# EAGLE library part NANO_ARDUINONANOV30_ARDUINO_NANO (library ardunio-physics-board-v4)
Arduino Nano V3.0 Overview: The Arduino Nano is a small, complete, and breadboard-friendly board based on the ATmega328 (Arduino Nano 3.x) or ATmega168 (Arduino Nano 2.x). It has more or less the same functionality of the Arduino Duemilanove, but in a different package. It lacks only a DC power jack, and works with a Mini-B USB cable instead of a standard one. The Nano was designed and is being produced by Gravitech. Specifications: Microcontroller Atmel ATmega168 or ATmega328 Operating Voltage (logic level) 5 V Input Voltage (recommended) 7-12 V Input Voltage (limits) 6-20 V Digital I/O Pins 14 (of which 6 provide PWM output) Analog Input Pins 8 DC Current per I/O Pin 40 mA Flash Memory 16 KB (ATmega168) or 32 KB (ATmega328) of which 2 KB used by bootloader SRAM 1 KB (ATmega168) or 2 KB (ATmega328) EEPROM 512 bytes (ATmega168) or 1 KB (ATmega328) Clock Speed 16 MHz Dimensions 0.73" x 1.70" Length 45 mm Width 18 mm Weigth 5 g Power: The Arduino Nano can be powered via the Mini-B USB connection, 6-20V unregulated external power supply (pin 30), or 5V regulated external power supply (pin 27). The power source is automatically selected to the highest voltage source. Memory: The ATmega168 has 16 KB of flash memory for storing code (of which 2 KB is used for the bootloader); the ATmega328 has 32 KB, (also with 2 KB used for the bootloader). The ATmega168 has 1 KB of SRAM and 512 bytes of EEPROM (which can be read and written with the EEPROM library); the ATmega328 has 2 KB of SRAM and 1 KB of EEPROM. Input and Output: Each of the 14 digital pins on the Nano can be used as an input or output, using pinMode(), digitalWrite(), and digitalRead() functions. They operate at 5 volts. Each pin can provide or receive a maximum of 40 mA and has an internal pull-up resistor (disconnected by default) of 20-50 kOhms. In addition, some pins have specialized functions. Visit Arduino - ArduinoBoardNano <https://www.arduino.cc/en/Main/ArduinoBoardNano>
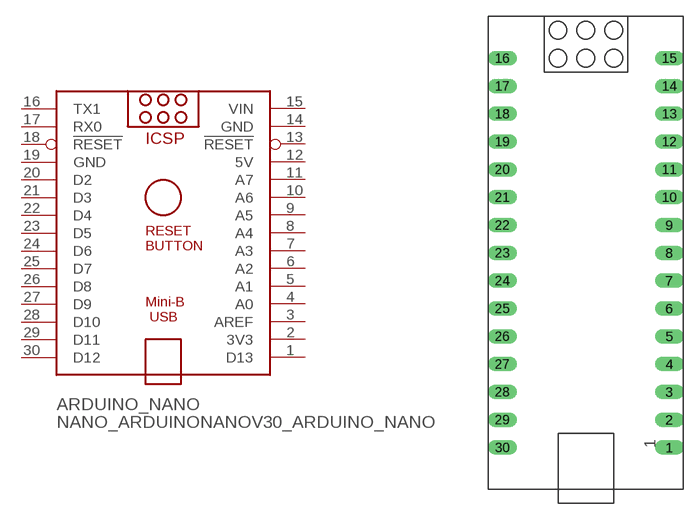
[diagram p0: symbol with the pads of NANO_ARDUINONANOV30_ARDUINO_NANO; footprint NANO_ARDUINONANOV30_ARDUINO_NANO]

Designator prefix ARDUINO_NANO

## NANO_ARDUINONANOV30_ARDUINO_NANO  [NANO_ARDUINONANOV30_ARDUINO_NANO]
1  D13
2  3V3  out
3  AREF  in
4  A0
5  A1
6  A2
7  A3
8  A4
9  A5
10  A6
11  A7
12  5V  pwr
13  !RESET  in
14  GND  pwr
15  VIN  pwr
16  TX1
17  RX0
18  !RESET  in
19  GND  pwr
20  D2
21  D3
22  D4
23  D5
24  D6
25  D7
26  D8
27  D9
28  D10
29  D11
30  D12

## Footprint NANO_ARDUINONANOV30_ARDUINO_NANO (pad centres in mm)
Arduino Nano V3.0 The Nano was designed and is being produced by Gravitech. Gravitech Arduino Nano V3.0 <http://www.gravitech.us/arna30wiatp.html>
drill 0.8 long: 1 16.51,3.81; 2 16.51,6.35; 3 16.51,8.89; 4 16.51,11.43; 5 16.51,13.97; 6 16.51,16.51; 7 16.51,19.05; 8 16.51,21.59; 9 16.51,24.13; 10 16.51,26.67; 11 16.51,29.21; 12 16.51,31.75; 13 16.51,34.29; 14 16.51,36.83; 15 16.51,39.37; 16 1.27,39.37; 17 1.27,36.83; 18 1.27,34.29; 19 1.27,31.75; 20 1.27,29.21; 21 1.27,26.67; 22 1.27,24.13; 23 1.27,21.59; 24 1.27,19.05; 25 1.27,16.51; 26 1.27,13.97; 27 1.27,11.43; 28 1.27,8.89; 29 1.27,6.35; 30 1.27,3.81